# EAGLE library part TMC2208 (library TRINAMIC)
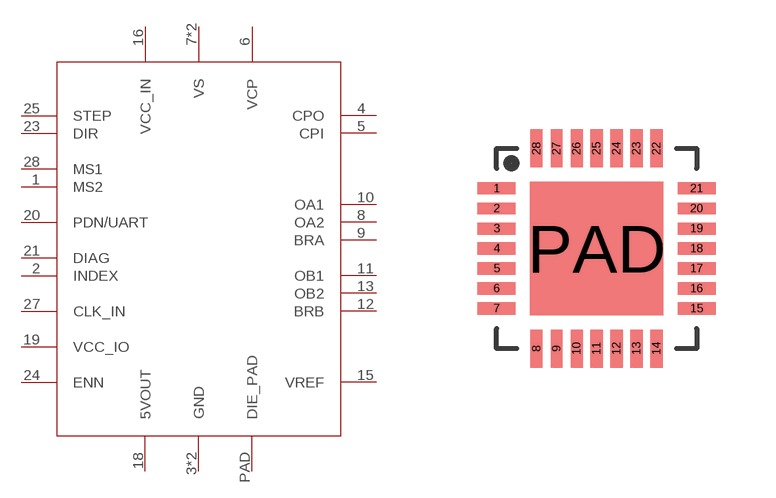
[diagram p1: symbol with the pads of QFN28; footprint QFN28]

Designator prefix TMC

## TMC2208  [QFN28]
1  MS2
2  INDEX
3  GND
4  CPO
5  CPI
6  VCP
7  VS
8  OA2
9  BRA
10  OA1
11  OB1
12  BRB
13  OB2
14  VS
15  VREF
16  VCC_IN
17  GND
18  5VOUT
19  VCC_IO
20  PDN/UART
21  DIAG
23  DIR
24  ENN
25  STEP
27  CLK_IN
28  MS1
PAD  DIE_PAD

## Footprint QFN28 (pad centres in mm)
smd 0.95 x 0.3: 1 -2.5,1.5; 2 -2.5,1; 3 -2.5,0.5; 4 -2.5,0; 5 -2.5,-0.5; 6 -2.5,-1; 7 -2.5,-1.5; 15 2.5,-1.5; 16 2.5,-1; 17 2.5,-0.5; 18 2.5,0; 19 2.5,0.5; 20 2.5,1; 21 2.5,1.5
smd 0.3 x 0.95: 8 -1.5,-2.5; 9 -1,-2.5; 10 -0.5,-2.5; 11 0,-2.5; 12 0.5,-2.5; 13 1,-2.5; 14 1.5,-2.5; 22 1.5,2.5; 23 1,2.5; 24 0.5,2.5; 25 0,2.5; 26 -0.5,2.5; 27 -1,2.5; 28 -1.5,2.5
smd 3.35 x 3.35: PAD 0,0